# Altium footprint library PCB_Lib.PcbLib: 286 footprints (part 14 of 18)
Each footprint in its own frame and in the unit in brackets; x right, y up, seen from the top. Pads: shape width x height; smd on the part's side, far side on the other; paste and mask are expansions set on the pad; w line width, h text height; cw(c..) or ccw(c..) is an arc to the next point about the centre after c.
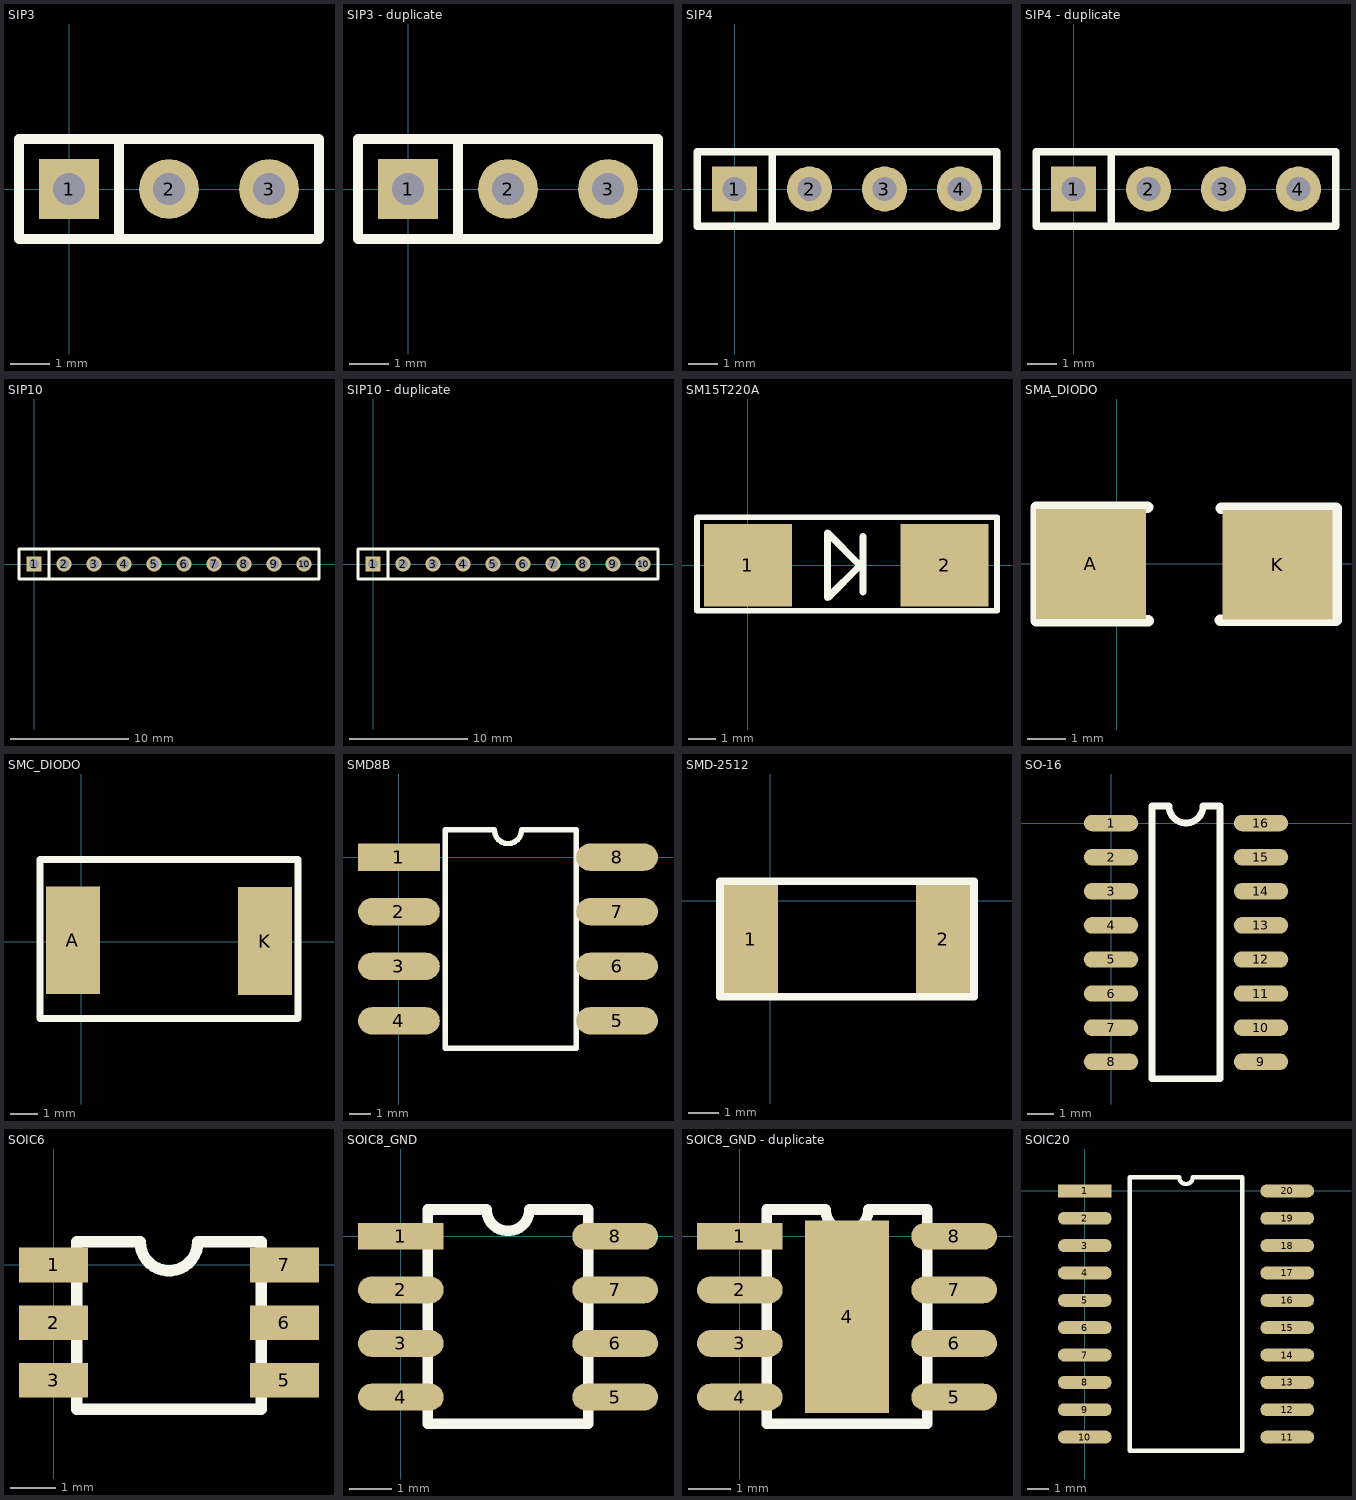
[diagram p13: the footprints below, top view; thin cyan lines are the x and y axes]

## SIP3 [mil]
pads (3):
  rect 60x60 hole 32: 1(0,0)
  round 60 hole 32: 2(100,0) 3(200,0)
Top Overlay:
  lines w10: 50,-50 50,50 ; -50,-50 -50,50 250,50 250,-50 -50,-50

## SIP3 - duplicate [mil]
pads (3):
  rect 60x60 hole 32: 1(0,0)
  round 60 hole 32: 2(100,0) 3(200,0)
Top Overlay:
  lines w10: 50,-50 50,50 ; -50,-50 250,-50 250,50 -50,50 -50,-50

## SIP4 [mil]
pads (4):
  rect 60x60 hole 32: 1(0,0)
  round 60 hole 32: 2(100,0) 3(200,0) 4(300,0)
Top Overlay:
  lines w10: 50,-50 50,50 ; -50,-50 350,-50 350,50 -50,50 -50,-50

## SIP4 - duplicate [mil]
pads (4):
  rect 60x60 hole 32: 1(0,0)
  round 60 hole 32: 2(100,0) 3(200,0) 4(300,0)
Top Overlay:
  lines w10: 50,-50 50,50 ; -50,-50 -50,50 350,50 350,-50 -50,-50

## SIP10 [mil]
pads (10):
  rect 50x50 hole 32: 1(0,0)
  round 50 hole 32: 2(100,0) 3(200,0) 4(300,0) 5(400,0) 6(500,0) 7(600,0) 8(700,0) 9(800,0) 10(900,0)
Top Overlay:
  lines w10: 50,-50 50,50 ; -50,-50 -50,50 950,50 950,-50 -50,-50

## SIP10 - duplicate [mil]
pads (10):
  rect 50x50 hole 32: 1(0,0)
  round 50 hole 32: 2(100,0) 3(200,0) 4(300,0) 5(400,0) 6(500,0) 7(600,0) 8(700,0) 9(800,0) 10(900,0)
Top Overlay:
  lines w10: 50,-50 50,50 ; -50,-50 950,-50 950,50 -50,50 -50,-50

## SM15T220A [mm]
pads (2):
  rect 3.2x3 smd: 1(0,0) 2(7.15,0)
Top Overlay:
  lines w0.2: -1.85,-1.65 -1.85,1.75 9.05,1.75 9.05,-1.65 -1.85,-1.65
  lines w0.254: 4.175,-0.975 4.175,1.05 ; 2.9,-1.175 2.9,1.175 4.075,0 2.9,-1.175

## SMA_DIODO [mm] "SMD R&C"
pads (2):
  rect 2.87x2.87 smd: A(-0.675,0) K(4.2,-0.025)
Top Overlay:
  lines w0.305: 0.8,1.475 -1.221,1.475 -2.1,1.475 -2.1,-1.485 0.818,-1.485 ; 2.7,-1.475 5.725,-1.475 5.725,1.45 2.725,1.45

## SMC_DIODO [mil] "SMD R&C"
pads (2):
  rect 78.74x157.48 smd: A(-12,2) K(269,1)
Top Overlay:
  lines w10: -60,-112 317,-112 317,1 317,120 -60,120 -60,12 -60,-112

## SMD8B [mil]
pads (8):
  rect 150x50 smd: 1(0,0)
  oval 150x50 smd: 2(0,-100) 3(0,-200) 4(0,-300) 5(400,-300) 6(400,-200) 7(400,-100) 8(400,0)
Top Overlay:
  lines w10: 85,-350 85,50 175,50 ccw(c200,50) 225,50 325,50 325,-350 85,-350

## SMD-2512 [mil]
pads (2):
  rect 70x140 smd: 1(-25,-50) 2(225,-50)
Top Overlay:
  lines w10: -65,-125 -65,25 265,25 265,-125 -65,-125

## SO-16 [mil]
pads (16):
  oval 80x24 smd: 1(0,0) 2(0,-50) 3(0,-100) 4(0,-150) 5(0,-200) 6(0,-250) 7(0,-300) 8(0,-350) 9(220,-350) 10(220,-300) 11(220,-250) 12(220,-200) 13(220,-150) 14(220,-100) 15(220,-50) 16(220,0)
Top Overlay:
  lines w10: 60,-375 60,25 85,25 ccw(c110,25) 135,25 160,25 160,-375 60,-375

## SOIC6 [mil] "Circuito de 6 patas SMD"
height 100
pads (6):
  rect 60x30 smd: 1(0,0) 2(0,-50) 3(0,-100) 5(200,-100) 6(200,-50) 7(200,0)
Top Overlay:
  lines w10: 20,-125 20,20 75,20 ccw(c100,20) 125,20 180,20 180,-125 20,-125

## SOIC8_GND [mil] "Con plano de masa inferior"
pads (8):
  rect 80x25 smd: 1(0,0)
  oval 80x25 smd: 2(0,-50) 3(0,-100) 4(0,-150) 5(200,-150) 6(200,-100) 7(200,-50) 8(200,0)
Top Overlay:
  lines w10: 25,-175 175,-175 175,25 120,25 cw(c100,25) 80,25 25,25 25,-175

## SOIC8_GND - duplicate [mil]
pads (9):
  rect 80x25 smd: 1(0,0)
  oval 80x25 smd: 2(0,-50) 3(0,-100) 4(0,-150) 5(200,-150) 6(200,-100) 7(200,-50) 8(200,0)
  rect 78.74x180 smd: 4(100,-75)
Top Overlay:
  lines w10: 25,-175 175,-175 175,25 120,25 cw(c100,25) 80,25 25,25 25,-175

## SOIC20 [mm]
pads (20):
  rect 2.5x0.6 smd: 1(0,0)
  oval 2.5x0.6 smd: 2(0,-1.27) 3(0,-2.54) 4(0,-3.81) 5(0,-5.08) 6(0,-6.35) 7(0,-7.62) 8(0,-8.89) 9(0,-10.16) 10(0,-11.43) 11(9.4,-11.43) 12(9.4,-10.16) 13(9.4,-8.89) 14(9.4,-7.62) 15(9.4,-6.35) 16(9.4,-5.08) 17(9.4,-3.81) 18(9.4,-2.54) 19(9.4,-1.27) 20(9.4,0)
Top Overlay:
  lines w0.2: 2.085,-12.065 2.085,0.635 4.382,0.635 ccw(c4.7,0.635) 5.017,0.635 7.315,0.635 7.315,-12.065 2.085,-12.065
3D body "SW3dPS-SOIC20-300.STEP": height 2.65, standoff 0, extent -0.5,-12.15 9.8,0.65